# Altium footprint library 787328-1.PcbLib: 2 footprints
Each footprint in its own frame and in the unit in brackets; x right, y up, seen from the top. Pads: shape width x height; smd on the part's side, far side on the other; paste and mask are expansions set on the pad; w line width, h text height; cw(c..) or ccw(c..) is an arc to the next point about the centre after c.
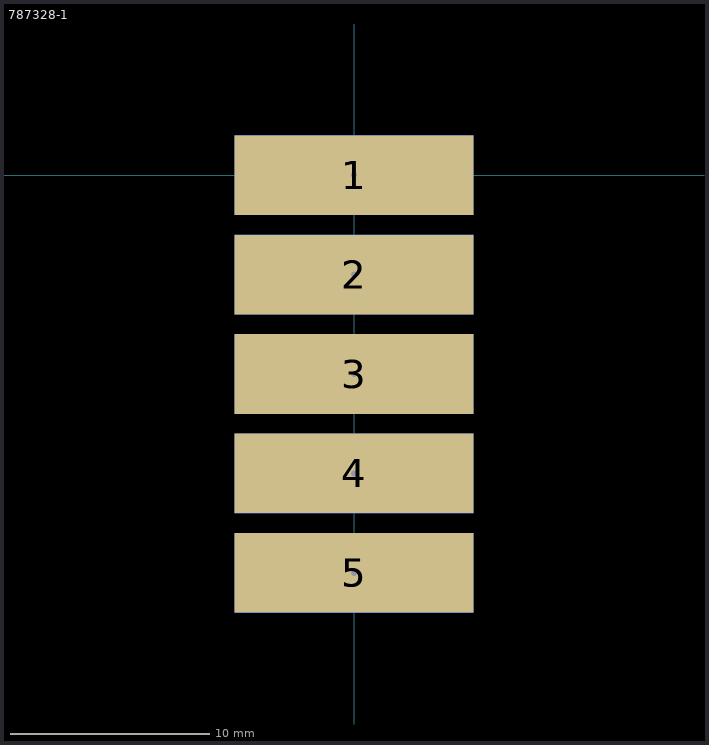
[diagram p0: the footprints below, top view; thin cyan lines are the x and y axes]

## 787328-1 [mm]
pads (10):
  rect 12x4 smd: 1(0,0) 2(0,-5) 3(0,-10) 4(0,-15) 5(0,-20)
  rect 12x4 smd far side: 1(0,0) 2(0,-5) 3(0,-10) 4(0,-15) 5(0,-20)
via 0,0 diameter 0.6 hole 0.3
via 0,-5 diameter 0.6 hole 0.3
via 0,-10 diameter 0.6 hole 0.3
via 0,-15 diameter 0.6 hole 0.3
via 0,-20 diameter 0.6 hole 0.3

## PCBComponent_1 [mm]